# Altium footprint library 6-STM32F407ZGT6MINI整体封装.PcbLib: 2 footprints
Each footprint in its own frame and in the unit in brackets; x right, y up, seen from the top. Pads: shape width x height; smd on the part's side, far side on the other; paste and mask are expansions set on the pad; w line width, h text height; cw(c..) or ccw(c..) is an arc to the next point about the centre after c.
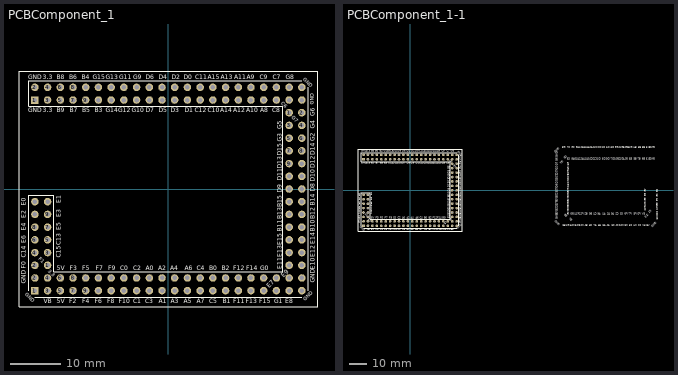
[diagram p0: the footprints below, top view; thin cyan lines are the x and y axes]

## PCBComponent_1 [mm]
pads (126):
  rect 1.5x1.5 hole 0.9: 1(-26.67,-20.32) 1(-26.67,17.78)
  round 1.5 hole 0.9: 1(-24.13,-15.24) 1(24.13,15.24) 2(-26.67,-17.78) 2(-26.67,-15.24) 2(-26.67,20.32) 2(26.67,15.24) 3(-24.13,-20.32) 3(-24.13,-12.7) 3(-24.13,17.78) 3(24.13,12.7) 4(-26.67,-12.7) 4(-24.13,-17.78) 4(-24.13,20.32) 4(26.67,12.7) 5(-24.13,-10.16) 5(-21.59,-20.32) 5(-21.59,17.78) 5(24.13,10.16) 6(-26.67,-10.16) 6(-21.59,-17.78) 6(-21.59,20.32) 6(26.67,10.16) 7(-24.13,-7.62) 7(-19.05,-20.32) 7(-19.05,17.78) 7(24.13,7.62) 8(-26.67,-7.62) 8(-19.05,-17.78) 8(-19.05,20.32) 8(26.67,7.62) 9(-24.13,-5.08) 9(-16.51,-20.32) 9(-16.51,17.78) 9(24.13,5.08) 10(-26.67,-5.08) 10(-16.51,-17.78) 10(-16.51,20.32) 10(26.67,5.08) 11(-24.13,-2.54) 11(-13.97,-20.32) 11(-13.97,17.78) 11(24.13,2.54) 12(-26.67,-2.54) 12(-13.97,-17.78) 12(-13.97,20.32) 12(26.67,2.54) 13(-11.43,-20.32) 13(-11.43,17.78) 13(24.13,0) 14(-11.43,-17.78) 14(-11.43,20.32) 14(26.67,0) 15(-8.89,-20.32) 15(-8.89,17.78) 15(24.13,-2.54) 16(-8.89,-17.78) 16(-8.89,20.32) 16(26.67,-2.54) 17(-6.35,-20.32) 17(-6.35,17.78) 17(24.13,-5.08) 18(-6.35,-17.78) 18(-6.35,20.32) 18(26.67,-5.08) 19(-3.81,-20.32) 19(-3.81,17.78) 19(24.13,-7.62) 20(-3.81,-17.78) 20(-3.81,20.32) 20(26.67,-7.62) 21(-1.27,-20.32) 21(-1.27,17.78) 21(24.13,-10.16) 22(-1.27,-17.78) 22(-1.27,20.32) 22(26.67,-10.16) 23(1.27,-20.32) 23(1.27,17.78) 23(24.13,-12.7) 24(1.27,-17.78) 24(1.27,20.32) 24(26.67,-12.7) 25(3.81,-20.32) 25(3.81,17.78) 25(24.13,-15.24) 26(3.81,-17.78) 26(3.81,20.32) 26(26.67,-15.24) 27(6.35,-20.32) 27(6.35,17.78) 28(6.35,-17.78) 28(6.35,20.32) 29(8.89,-20.32) 29(8.89,17.78) 30(8.89,-17.78) 30(8.89,20.32) 31(11.43,-20.32) 31(11.43,17.78) 32(11.43,-17.78) 32(11.43,20.32) 33(13.97,-20.32) 33(13.97,17.78) 34(13.97,-17.78) 34(13.97,20.32) 35(16.51,-20.32) 35(16.51,17.78) 36(16.51,-17.78) 36(16.51,20.32) 37(19.05,-20.32) 37(19.05,17.78) 38(19.05,-17.78) 38(19.05,20.32) 39(21.59,-20.32) 39(21.59,17.78) 40(21.59,-17.78) 40(21.59,20.32) 41(24.13,-20.32) 41(24.13,17.78) 42(24.13,-17.78) 42(24.13,20.32) 43(26.67,-20.32) 43(26.67,17.78) 44(26.67,-17.78) 44(26.67,20.32)
Top Overlay:
  lines w0.2: -27.94,-20.32 -27.94,-16.51 -27.94,-1.27 -22.86,-1.27 -22.86,-16.51 22.885,-16.51 ; -26.67,-21.59 26.67,-21.59 ; 22.86,-16.51 22.86,16.51 -27.94,16.51 -27.94,21.59 26.67,21.59 ; 27.94,-20.32 27.94,-16.51 27.94,16.51 27.94,20.32
  lines w0.203: -29.845,-23.495 -29.845,23.495 29.845,23.495 29.845,-23.495 -29.845,-23.495
  text "GND" at 29.21,-18.771 h0.89
  text "3.3" at -25.121,15.367 h0.89
  text "3.3" at -25.121,21.971 h0.89
  text "GND" at -28.448,-18.948 h0.89
  text "3.3" at -24.13,-16.485 h0.76
  text "5V" at -22.276,-16.256 h0.89
  text "VB" at -24.892,-22.86 h0.89
  text "5V" at -22.352,-22.86 h0.89
  text "B11" at 22.631,-8.56 h0.89
  text "B10" at 29.21,-8.585 h0.89
  text "E15" at 22.631,-11.201 h0.89
  text "E14" at 29.21,-11.074 h0.89
  text "E13" at 22.631,-13.665 h0.89
  text "E12" at 29.21,-13.589 h0.89
  text "E11" at 22.631,-16.078 h0.89
  text "E10" at 29.21,-16.104 h0.89
  text "E9" at 23.038,-17.704 h0.89
  text "E8" at 23.393,-22.86 h0.89
  text "E7" at 20.117,-19.812 h0.89
  text "G1" at 21.107,-22.86 h0.89
  text "G0" at 18.364,-16.256 h0.89
  text "F15" at 18.136,-22.86 h0.89
  text "F14" at 15.519,-16.256 h0.89
  text "F13" at 15.418,-22.86 h0.89
  text "F12" at 12.979,-16.256 h0.89
  text "F11" at 12.929,-22.86 h0.89
  text "B2" at 10.693,-16.256 h0.89
  text "B1" at 10.82,-22.86 h0.89
  text "B0" at 8.128,-16.256 h0.89
  text "C5" at 8.153,-22.86 h0.89
  text "C4" at 5.639,-16.256 h0.89
  text "A7" at 5.664,-22.86 h0.89
  text "A6" at 3.251,-16.256 h0.89
  text "A5" at 3.048,-22.86 h0.89
  text "A4" at 0.406,-16.256 h0.89
  text "A3" at 0.483,-22.86 h0.89
  text "A1" at -1.88,-22.86 h0.89
  text "A2" at -2.007,-16.256 h0.89
  text "A0" at -4.547,-16.256 h0.89
  text "C3" at -4.572,-22.86 h0.89
  text "C2" at -7.061,-16.256 h0.89
  text "C1" at -6.985,-22.86 h0.89
  text "C0" at -9.627,-16.256 h0.89
  text "F10" at -9.957,-22.86 h0.89
  text "F9" at -12.04,-16.256 h0.89
  text "F8" at -12.192,-22.86 h0.89
  text "F7" at -14.554,-16.256 h0.89
  text "F6" at -14.732,-22.86 h0.89
  text "F5" at -17.221,-16.256 h0.89
  text "F4" at -17.196,-22.86 h0.89
  text "F3" at -19.736,-16.256 h0.89
  text "F2" at -19.787,-22.86 h0.89
  text "F1" at -25.959,-14.046 h0.76
  text "F0" at -28.448,-15.951 h0.89
  text "C15" at -21.539,-13.741 h0.89
  text "C14" at -28.448,-13.691 h0.89
  text "C13" at -21.539,-11.227 h0.89
  text "E6" at -28.448,-10.871 h0.89
  text "E5" at -21.539,-8.23 h0.89
  text "E4" at -28.448,-8.306 h0.89
  text "E3" at -21.539,-5.664 h0.89
  text "E2" at -28.448,-5.817 h0.89
  text "E1" at -21.539,-2.845 h0.89
  text "E0" at -28.448,-3.353 h0.89
  text "B12" at 29.21,-5.994 h0.89
  text "B13" at 22.631,-6.071 h0.89
  text "B14" at 29.21,-3.353 h0.89
  text "B15" at 22.631,-3.607 h0.89
  text "D8" at 29.21,-0.584 h0.89
  text "D9" at 22.631,-0.737 h0.89
  text "D10" at 29.21,1.499 h0.89
  text "D11" at 22.631,1.676 h0.89
  text "D12" at 29.21,4.14 h0.89
  text "D13" at 22.631,4.089 h0.89
  text "D14" at 29.21,6.731 h0.89
  text "D15" at 22.631,6.604 h0.89
  text "G2" at 29.21,9.5 h0.89
  text "G3" at 22.631,9.474 h0.89
  text "G5" at 22.631,11.989 h0.89
  text "G4" at 29.21,12.04 h0.89
  text "G6" at 29.21,14.58 h0.89
  text "G7" at 24.536,14.224 h0.76
  text "C6" at 22.504,17.018 h0.76
  text "G8" at 23.419,21.971 h0.89
  text "C8" at 20.777,15.367 h0.89
  text "C7" at 20.904,21.971 h0.89
  text "A8" at 18.313,15.367 h0.89
  text "C9" at 18.212,21.971 h0.89
  text "A10" at 15.545,15.367 h0.89
  text "A9" at 15.672,21.971 h0.89
  text "A12" at 12.954,15.367 h0.89
  text "A11" at 13.157,21.971 h0.89
  text "A14" at 10.338,15.367 h0.89
  text "A13" at 10.49,21.971 h0.89
  text "A15" at 7.849,21.971 h0.89
  text "C10" at 7.874,15.367 h0.89
  text "C12" at 5.258,15.367 h0.89
  text "C11" at 5.359,21.971 h0.89
  text "D0" at 3.073,21.971 h0.89
  text "D1" at 3.302,15.367 h0.89
  text "D3" at 0.508,15.367 h0.89
  text "D2" at 0.635,21.971 h0.89
  text "D5" at -1.88,15.367 h0.89
  text "D4" at -1.93,21.971 h0.89
  text "D7" at -4.547,15.367 h0.89
  text "D6" at -4.547,21.971 h0.89
  text "G9" at -7.061,21.971 h0.89
  text "G10" at -7.366,15.367 h0.89
  text "G11" at -9.804,21.971 h0.89
  text "G12" at -9.982,15.367 h0.89
  text "G13" at -12.522,21.971 h0.89
  text "G14" at -12.548,15.367 h0.89
  text "B3" at -14.707,15.367 h0.89
  text "G15" at -15.138,21.971 h0.89
  text "B9" at -22.301,15.367 h0.89
  text "B8" at -22.276,21.971 h0.89
  text "B5" at -17.196,15.367 h0.89
  text "B4" at -17.297,21.971 h0.89
  text "B7" at -19.736,15.367 h0.89
  text "B6" at -19.837,21.971 h0.89
  text "GND" at -27.991,21.971 h0.89
  text "GND" at 27.381,-22.428 h0.76
  text "GND" at 29.058,16.866 h0.76
  text "GND" at 26.873,21.793 h0.76
  text "GND" at -28.727,-21.133 h0.76
  text "GND" at -27.991,15.367 h0.89

## PCBComponent_1-1 [mm]
pads (126):
  round 1.5 hole 0.9: 1(-26.67,-2.54) 2(-24.13,-2.54) 3(-26.67,-5.08) 4(-24.13,-5.08) 5(-26.67,-7.62) 6(-24.13,-7.62) 7(-26.67,-10.16) 8(-24.13,-10.16) 9(-26.67,-12.7) 10(-24.13,-12.7) 11(-26.67,-15.24) 12(-24.13,-15.24) 13(-26.67,-17.78) 15(-24.13,-17.78) 16(-24.13,-20.32) 18(-21.59,-20.32) 18(-21.59,-17.78) 19(-19.05,-17.78) 20(-19.05,-20.32) 21(-16.51,-17.78) 22(-16.51,-20.32) 23(-13.97,-17.78) 24(-13.97,-20.32) 25(-11.43,-17.78) 26(-11.43,-20.32) 27(-8.89,-17.78) 28(-8.89,-20.32) 29(-6.35,-17.78) 30(-6.35,-20.32) 31(-3.81,-17.78) 32(-3.81,-20.32) 33(-1.27,-17.78) 34(-1.27,-20.32) 35(1.27,-17.78) 36(1.27,-20.32) 37(3.81,-17.78) 38(3.81,-20.32) 39(6.35,-17.78) 40(6.35,-20.32) 41(8.89,-17.78) 42(8.89,-20.32) 43(11.43,-17.78) 44(11.43,-20.32) 45(13.97,-17.78) 46(13.97,-20.32) 47(16.51,-17.78) 48(16.51,-20.32) 49(19.05,-17.78) 50(19.05,-20.32) 51(21.59,-17.78) 52(21.59,-20.32) 53(24.13,-17.78) 54(24.13,-20.32) 55(26.67,-17.78) 56(26.67,-20.32) 57(26.67,-15.24) 58(24.13,-15.24) 59(26.67,-12.7) 60(24.13,-12.7) 61(26.67,-10.16) 62(24.13,-10.16) 63(26.67,-7.62) 64(24.13,-7.62) 65(26.67,-5.08) 66(24.13,-5.08) 67(26.67,-2.54) 68(24.13,-2.54) 69(26.67,0) 70(24.13,0) 71(26.67,2.54) 72(24.13,2.54) 73(26.67,5.08) 74(24.13,5.08) 75(26.67,7.62) 76(24.13,7.62) 77(26.67,10.16) 78(24.13,10.16) 79(26.67,12.7) 80(24.13,12.7) 81(26.67,15.24) 82(24.13,15.24) 83(26.67,17.78) 84(26.67,20.32) 85(24.13,17.78) 86(24.13,20.32) 87(21.59,17.78) 88(21.59,20.32) 89(19.05,17.78) 90(19.05,20.32) 91(16.51,17.78) 92(16.51,20.32) 93(13.97,17.78) 94(13.97,20.32) 95(11.43,17.78) 96(11.43,20.32) 97(8.89,17.78) 98(8.89,20.32) 99(6.35,17.78) 100(6.35,20.32) 101(3.81,17.78) 102(3.81,20.32) 103(1.27,17.78) 104(1.27,20.32) 105(-1.27,17.78) 106(-1.27,20.32) 107(-3.81,17.78) 108(-3.81,20.32) 109(-6.35,17.78) 110(-6.35,20.32) 111(-8.89,17.78) 112(-8.89,20.32) 113(-11.43,17.78) 114(-11.43,20.32) 115(-13.97,17.78) 116(-13.97,20.32) 117(-16.51,17.78) 118(-16.51,20.32) 119(-19.05,17.78) 120(-19.05,20.32) 121(-21.59,17.78) 122(-21.59,20.32) 123(-24.13,17.78) 124(-24.13,20.32) 126(-26.67,20.32)
  rect 1.5x1.5 hole 0.9: 14(-26.67,-20.32) 125(-26.67,17.78)
Top Overlay:
  lines w0.2: -27.94,-20.32 -27.94,-16.51 -27.94,-1.27 -22.86,-1.27 -22.86,-16.51 22.885,-16.51 ; -26.67,-21.59 26.67,-21.59 ; 22.86,-16.51 22.86,16.51 -27.94,16.51 -27.94,21.59 26.67,21.59 ; 27.94,-20.32 27.94,-16.51 27.94,16.51 27.94,20.32
  lines w0.203: -29.845,-23.495 29.845,-23.495 29.845,23.495 -29.845,23.495 -29.845,-23.495
  text "GND" at 83.312,-16.612 h0.89
  text "3.3" at 137.643,17.526 h0.89
  text "3.3" at 137.643,24.13 h0.89
  text "GND" at 140.97,-16.789 h0.89
  text "3.3" at 136.652,-14.326 h0.76
  text "5V" at 134.798,-14.097 h0.89
  text "VB" at 137.414,-20.701 h0.89
  text "5V" at 134.874,-20.701 h0.89
  text "B11" at 89.891,-6.401 h0.89
  text "B10" at 83.312,-6.426 h0.89
  text "E15" at 89.891,-9.042 h0.89
  text "E14" at 83.312,-8.915 h0.89
  text "E13" at 89.891,-11.506 h0.89
  text "E12" at 83.312,-11.43 h0.89
  text "E11" at 89.891,-13.919 h0.89
  text "E10" at 83.312,-13.945 h0.89
  text "E9" at 89.484,-15.545 h0.89
  text "E8" at 89.129,-20.701 h0.89
  text "E7" at 92.405,-17.653 h0.89
  text "G1" at 91.415,-20.701 h0.89
  text "G0" at 94.158,-14.097 h0.89
  text "F15" at 94.386,-20.701 h0.89
  text "F14" at 97.003,-14.097 h0.89
  text "F13" at 97.104,-20.701 h0.89
  text "F12" at 99.543,-14.097 h0.89
  text "F11" at 99.593,-20.701 h0.89
  text "B2" at 101.829,-14.097 h0.89
  text "B1" at 101.702,-20.701 h0.89
  text "B0" at 104.394,-14.097 h0.89
  text "C5" at 104.369,-20.701 h0.89
  text "C4" at 106.883,-14.097 h0.89
  text "A7" at 106.858,-20.701 h0.89
  text "A6" at 109.271,-14.097 h0.89
  text "A5" at 109.474,-20.701 h0.89
  text "A4" at 112.116,-14.097 h0.89
  text "A3" at 112.039,-20.701 h0.89
  text "A1" at 114.402,-20.701 h0.89
  text "A2" at 114.529,-14.097 h0.89
  text "A0" at 117.069,-14.097 h0.89
  text "C3" at 117.094,-20.701 h0.89
  text "C2" at 119.583,-14.097 h0.89
  text "C1" at 119.507,-20.701 h0.89
  text "C0" at 122.149,-14.097 h0.89
  text "F10" at 122.479,-20.701 h0.89
  text "F9" at 124.562,-14.097 h0.89
  text "F8" at 124.714,-20.701 h0.89
  text "F7" at 127.076,-14.097 h0.89
  text "F6" at 127.254,-20.701 h0.89
  text "F5" at 129.743,-14.097 h0.89
  text "F4" at 129.718,-20.701 h0.89
  text "F3" at 132.258,-14.097 h0.89
  text "F2" at 132.309,-20.701 h0.89
  text "F1" at 138.481,-11.887 h0.76
  text "F0" at 140.97,-13.792 h0.89
  text "C15" at 134.061,-11.582 h0.89
  text "C14" at 140.97,-11.532 h0.89
  text "C13" at 134.061,-9.068 h0.89
  text "E6" at 140.97,-8.712 h0.89
  text "E5" at 134.061,-6.071 h0.89
  text "E4" at 140.97,-6.147 h0.89
  text "E3" at 134.061,-3.505 h0.89
  text "E2" at 140.97,-3.658 h0.89
  text "E1" at 134.061,-0.686 h0.89
  text "E0" at 140.97,-1.194 h0.89
  text "B12" at 83.312,-3.835 h0.89
  text "B13" at 89.891,-3.912 h0.89
  text "B14" at 83.312,-1.194 h0.89
  text "B15" at 89.891,-1.448 h0.89
  text "D8" at 83.312,1.575 h0.89
  text "D9" at 89.891,1.422 h0.89
  text "D10" at 83.312,3.658 h0.89
  text "D11" at 89.891,3.835 h0.89
  text "D12" at 83.312,6.299 h0.89
  text "D13" at 89.891,6.248 h0.89
  text "D14" at 83.312,8.89 h0.89
  text "D15" at 89.891,8.763 h0.89
  text "G2" at 83.312,11.659 h0.89
  text "G3" at 89.891,11.633 h0.89
  text "G5" at 89.891,14.148 h0.89
  text "G4" at 83.312,14.199 h0.89
  text "G6" at 83.312,16.739 h0.89
  text "G7" at 87.986,16.383 h0.76
  text "C6" at 90.018,19.177 h0.76
  text "G8" at 89.103,24.13 h0.89
  text "C8" at 91.745,17.526 h0.89
  text "C7" at 91.618,24.13 h0.89
  text "A8" at 94.209,17.526 h0.89
  text "C9" at 94.31,24.13 h0.89
  text "A10" at 96.977,17.526 h0.89
  text "A9" at 96.85,24.13 h0.89
  text "A12" at 99.568,17.526 h0.89
  text "A11" at 99.365,24.13 h0.89
  text "A14" at 102.184,17.526 h0.89
  text "A13" at 102.032,24.13 h0.89
  text "A15" at 104.673,24.13 h0.89
  text "C10" at 104.648,17.526 h0.89
  text "C12" at 107.264,17.526 h0.89
  text "C11" at 107.163,24.13 h0.89
  text "D0" at 109.449,24.13 h0.89
  text "D1" at 109.22,17.526 h0.89
  text "D3" at 112.014,17.526 h0.89
  text "D2" at 111.887,24.13 h0.89
  text "D5" at 114.402,17.526 h0.89
  text "D4" at 114.452,24.13 h0.89
  text "D7" at 117.069,17.526 h0.89
  text "D6" at 117.069,24.13 h0.89
  text "G9" at 119.583,24.13 h0.89
  text "G10" at 119.888,17.526 h0.89
  text "G11" at 122.326,24.13 h0.89
  text "G12" at 122.504,17.526 h0.89
  text "G13" at 125.044,24.13 h0.89
  text "G14" at 125.07,17.526 h0.89
  text "B3" at 127.229,17.526 h0.89
  text "G15" at 127.66,24.13 h0.89
  text "B9" at 134.823,17.526 h0.89
  text "B8" at 134.798,24.13 h0.89
  text "B5" at 129.718,17.526 h0.89
  text "B4" at 129.819,24.13 h0.89
  text "B7" at 132.258,17.526 h0.89
  text "B6" at 132.359,24.13 h0.89
  text "GND" at 140.513,24.13 h0.89
  text "GND" at 85.141,-20.269 h0.76
  text "GND" at 83.464,19.025 h0.76
  text "GND" at 85.649,23.952 h0.76
  text "GND" at 141.249,-18.974 h0.76
  text "GND" at 140.513,17.526 h0.89
  text "GND" at -27.991,15.367 h0.89
  text "GND" at -28.727,-21.133 h0.76
  text "GND" at 26.873,21.793 h0.76
  text "GND" at 29.058,16.866 h0.76
  text "GND" at 27.381,-22.428 h0.76
  text "GND" at -27.991,21.971 h0.89
  text "B6" at -19.837,21.971 h0.89
  text "B7" at -19.736,15.367 h0.89
  text "B4" at -17.297,21.971 h0.89
  text "B5" at -17.196,15.367 h0.89
  text "B8" at -22.276,21.971 h0.89
  text "B9" at -22.301,15.367 h0.89
  text "G15" at -15.138,21.971 h0.89
  text "B3" at -14.707,15.367 h0.89
  text "G14" at -12.548,15.367 h0.89
  text "G13" at -12.522,21.971 h0.89
  text "G12" at -9.982,15.367 h0.89
  text "G11" at -9.804,21.971 h0.89
  text "G10" at -7.366,15.367 h0.89
  text "G9" at -7.061,21.971 h0.89
  text "D6" at -4.547,21.971 h0.89
  text "D7" at -4.547,15.367 h0.89
  text "D4" at -1.93,21.971 h0.89
  text "D5" at -1.88,15.367 h0.89
  text "D2" at 0.635,21.971 h0.89
  text "D3" at 0.508,15.367 h0.89
  text "D1" at 3.302,15.367 h0.89
  text "D0" at 3.073,21.971 h0.89
  text "C11" at 5.359,21.971 h0.89
  text "C12" at 5.258,15.367 h0.89
  text "C10" at 7.874,15.367 h0.89
  text "A15" at 7.849,21.971 h0.89
  text "A13" at 10.49,21.971 h0.89
  text "A14" at 10.338,15.367 h0.89
  text "A11" at 13.157,21.971 h0.89
  text "A12" at 12.954,15.367 h0.89
  text "A9" at 15.672,21.971 h0.89
  text "A10" at 15.545,15.367 h0.89
  text "C9" at 18.212,21.971 h0.89
  text "A8" at 18.313,15.367 h0.89
  text "C7" at 20.904,21.971 h0.89
  text "C8" at 20.777,15.367 h0.89
  text "G8" at 23.419,21.971 h0.89
  text "C6" at 22.504,17.018 h0.76
  text "G7" at 24.536,14.224 h0.76
  text "G6" at 29.21,14.58 h0.89
  text "G4" at 29.21,12.04 h0.89
  text "G5" at 22.631,11.989 h0.89
  text "G3" at 22.631,9.474 h0.89
  text "G2" at 29.21,9.5 h0.89
  text "D15" at 22.631,6.604 h0.89
  text "D14" at 29.21,6.731 h0.89
  text "D13" at 22.631,4.089 h0.89
  text "D12" at 29.21,4.14 h0.89
  text "D11" at 22.631,1.676 h0.89
  text "D10" at 29.21,1.499 h0.89
  text "D9" at 22.631,-0.737 h0.89
  text "D8" at 29.21,-0.584 h0.89
  text "B15" at 22.631,-3.607 h0.89
  text "B14" at 29.21,-3.353 h0.89
  text "B13" at 22.631,-6.071 h0.89
  text "B12" at 29.21,-5.994 h0.89
  text "E0" at -28.448,-3.353 h0.89
  text "E1" at -21.539,-2.845 h0.89
  text "E2" at -28.448,-5.817 h0.89
  text "E3" at -21.539,-5.664 h0.89
  text "E4" at -28.448,-8.306 h0.89
  text "E5" at -21.539,-8.23 h0.89
  text "E6" at -28.448,-10.871 h0.89
  text "C13" at -21.539,-11.227 h0.89
  text "C14" at -28.448,-13.691 h0.89
  text "C15" at -21.539,-13.741 h0.89
  text "F0" at -28.448,-15.951 h0.89
  text "F1" at -25.959,-14.046 h0.76
  text "F2" at -19.787,-22.86 h0.89
  text "F3" at -19.736,-16.256 h0.89
  text "F4" at -17.196,-22.86 h0.89
  text "F5" at -17.221,-16.256 h0.89
  text "F6" at -14.732,-22.86 h0.89
  text "F7" at -14.554,-16.256 h0.89
  text "F8" at -12.192,-22.86 h0.89
  text "F9" at -12.04,-16.256 h0.89
  text "F10" at -9.957,-22.86 h0.89
  text "C0" at -9.627,-16.256 h0.89
  text "C1" at -6.985,-22.86 h0.89
  text "C2" at -7.061,-16.256 h0.89
  text "C3" at -4.572,-22.86 h0.89
  text "A0" at -4.547,-16.256 h0.89
  text "A2" at -2.007,-16.256 h0.89
  text "A1" at -1.88,-22.86 h0.89
  text "A3" at 0.483,-22.86 h0.89
  text "A4" at 0.406,-16.256 h0.89
  text "A5" at 3.048,-22.86 h0.89
  text "A6" at 3.251,-16.256 h0.89
  text "A7" at 5.664,-22.86 h0.89
  text "C4" at 5.639,-16.256 h0.89
  text "C5" at 8.153,-22.86 h0.89
  text "B0" at 8.128,-16.256 h0.89
  text "B1" at 10.82,-22.86 h0.89
  text "B2" at 10.693,-16.256 h0.89
  text "F11" at 12.929,-22.86 h0.89
  text "F12" at 12.979,-16.256 h0.89
  text "F13" at 15.418,-22.86 h0.89
  text "F14" at 15.519,-16.256 h0.89
  text "F15" at 18.136,-22.86 h0.89
  text "G0" at 18.364,-16.256 h0.89
  text "G1" at 21.107,-22.86 h0.89
  text "E7" at 20.117,-19.812 h0.89
  text "E8" at 23.393,-22.86 h0.89
  text "E9" at 23.038,-17.704 h0.89
  text "E10" at 29.21,-16.104 h0.89
  text "E11" at 22.631,-16.078 h0.89
  text "E12" at 29.21,-13.589 h0.89
  text "E13" at 22.631,-13.665 h0.89
  text "E14" at 29.21,-11.074 h0.89
  text "E15" at 22.631,-11.201 h0.89
  text "B10" at 29.21,-8.585 h0.89
  text "B11" at 22.631,-8.56 h0.89
  text "5V" at -22.352,-22.86 h0.89
  text "VB" at -24.892,-22.86 h0.89
  text "5V" at -22.276,-16.256 h0.89
  text "3.3" at -24.13,-16.485 h0.76
  text "GND" at -28.448,-18.948 h0.89
  text "3.3" at -25.121,21.971 h0.89
  text "3.3" at -25.121,15.367 h0.89
  text "GND" at 29.21,-18.771 h0.89